# EAGLE library part BGM220PC22HNA2R (library BGM220PC22HNA2R)
Bluetooth Modules (802.15.1) Wireless bluetooth PCB module, Secure Boot w/Root of Trust and Secure Loader(RTSL), 76.8MHz, 8dB, A Source: Datasheet <https://www.arrow.com/en/products/bgm220pc22hna2r/silicon-labs>
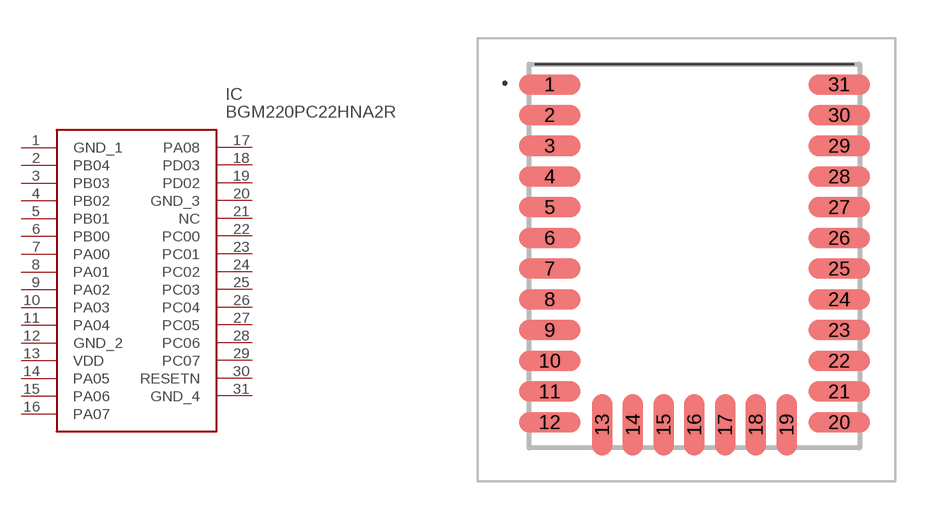
[diagram p0: symbol with the pads of BGM220PC22HNA2R; footprint BGM220PC22HNA2R]

Designator prefix IC

## BGM220PC22HNA2R (Description: Bluetooth Modules (802.15.1) Wireless bluetooth PCB module, Secure Boot w/Root of Trust and Secure Loader(RTSL), 76.8MHz, 8dB, A; Height: 2.4mm; Manufacturer_Name: Silicon Labs; Manufacturer_Part_Number: BGM220PC22HNA2R; Mouser_Part_Number: 634-BGM220PC22HNA2R; Mouser_Price-Stock: https://www.mouser.co.uk/ProductDetail/Silicon-Labs/BGM220PC22HNA2R?qs=7MVldsJ5Uax5%252BDPfZhtOHw%3D%3D)  [BGM220PC22HNA2R]
1  GND_1
2  PB04
3  PB03
4  PB02
5  PB01
6  PB00
7  PA00
8  PA01
9  PA02
10  PA03
11  PA04
12  GND_2
13  VDD
14  PA05
15  PA06
16  PA07
17  PA08
18  PD03
19  PD02
20  GND_3
21  NC  nc
22  PC00
23  PC01
24  PC02
25  PC03
26  PC04
27  PC05
28  PC06
29  PC07
30  RESETN
31  GND_4

## Footprint BGM220PC22HNA2R (pad centres in mm)
BGM220PC22HNA2R-1
smd 2.4 x 0.8: 1 -5.65,6.7; 2 -5.65,5.5; 3 -5.65,4.3; 4 -5.65,3.1; 5 -5.65,1.9; 6 -5.65,0.7; 7 -5.65,-0.5; 8 -5.65,-1.7; 9 -5.65,-2.9; 10 -5.65,-4.1; 11 -5.65,-5.3; 12 -5.65,-6.5; 20 5.65,-6.5; 21 5.65,-5.3; 22 5.65,-4.1; 23 5.65,-2.9; 24 5.65,-1.7; 25 5.65,-0.5; 26 5.65,0.7; 27 5.65,1.9; 28 5.65,3.1; 29 5.65,4.3; 30 5.65,5.5; 31 5.65,6.7
smd 0.8 x 2.4: 13 -3.6,-6.6; 14 -2.4,-6.6; 15 -1.2,-6.6; 16 0,-6.6; 17 1.2,-6.6; 18 2.4,-6.6; 19 3.6,-6.6